# EAGLE library part ESP-01 (library nixiemisc)
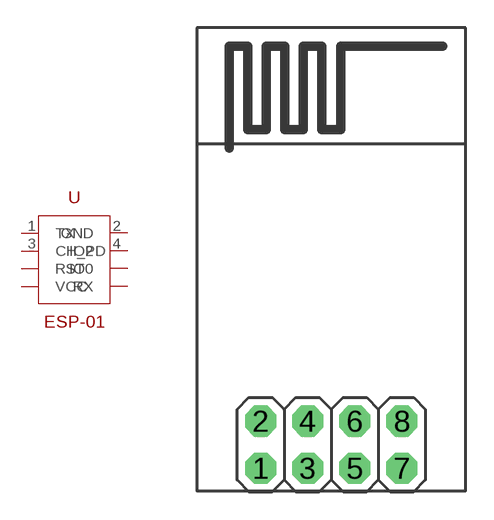
[diagram p16: symbol with the pads of ESP-01; footprint ESP-01]

Designator prefix U

## ESP-01  [ESP-01]
1  TX
2  GND  pwr
3  CH_PD  pas
4  IO2
5  RST  pas
6  IO0
7  VCC  pwr
8  RX

## Footprint ESP-01 (pad centres in mm)
PIN HEADER
drill 1.016 pad 1.676 octagon: 1 -3.81,-1.27; 2 -3.81,1.27; 3 -1.27,-1.27; 4 -1.27,1.27; 5 1.27,-1.27; 6 1.27,1.27; 7 3.81,-1.27; 8 3.81,1.27